# Altium footprint library Rising Clamp System WR-TBL_2.54 mm.PcbLib: 6 footprints
Each footprint in its own frame and in the unit in brackets; x right, y up, seen from the top. Pads: shape width x height; smd on the part's side, far side on the other; paste and mask are expansions set on the pad; w line width, h text height; cw(c..) or ccw(c..) is an arc to the next point about the centre after c.
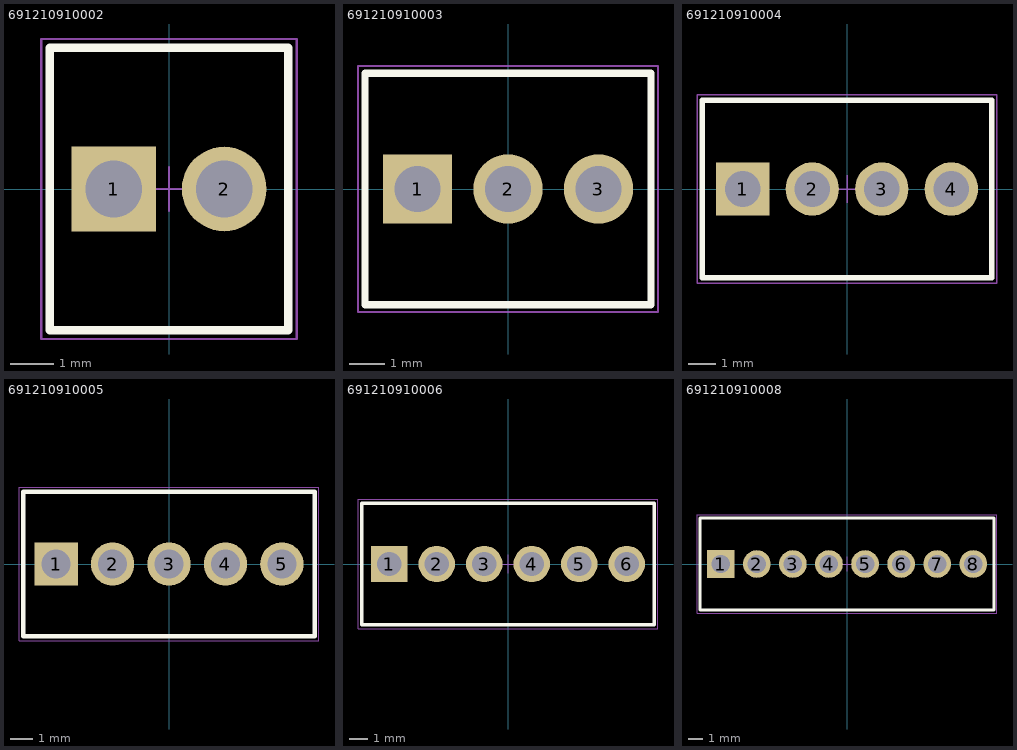
[diagram p0: the footprints below, top view; thin cyan lines are the x and y axes]

## 691210910002 [mm] "2,54mm - modular - green - Horizontal wire entry - Cage clamp - 0,8mm2 wires - 02p"
height 8.5
pads (2):
  rect 1.95x1.95 hole 1.3: 1(-1.27,0)
  round 1.95 hole 1.3: 2(1.27,0)
Top Overlay:
  lines w0.2: -2.74,-3.25 2.74,-3.25 2.74,3.25 -2.74,3.25 -2.74,-3.25
M13 Assembly Top:
  lines w0.1: -2.74,-3.25 -2.74,3.25 2.74,3.25 2.74,-3.25 -2.74,-3.25
M15 Courtyard Top:
  lines w0.05: -0.5,0 0.5,0 ; 0,-0.5 0,0.5 ; -2.94,-3.45 -2.94,3.45 2.94,3.45 2.94,-3.45 -2.94,-3.45
3D body "691210910002.stp": height 8.55, standoff -3.45, extent -2.74,-3.25 2.74,3.25

## 691210910003 [mm] "2,54mm - modular - green - Horizontal wire entry - Cage clamp - 0,8mm2 wires - 03p"
height 8.5
pads (3):
  rect 1.95x1.95 hole 1.3: 1(-2.54,0)
  round 1.95 hole 1.3: 2(0,0) 3(2.54,0)
Top Overlay:
  lines w0.2: -4.01,-3.25 -4.01,3.25 4.01,3.25 4.01,-3.25 -4.01,-3.25
M13 Assembly Top:
  lines w0.1: -4.01,-3.25 4.01,-3.25 4.01,3.25 -4.01,3.25 -4.01,-3.25
M15 Courtyard Top:
  lines w0.05: -0.5,0 0.5,0 ; 0,-0.5 0,0.5 ; -4.21,-3.45 4.21,-3.45 4.21,3.45 -4.21,3.45 -4.21,-3.45
3D body "691210910003.stp": height 8.55, standoff -3.45, extent -4.01,-3.25 4.01,3.25

## 691210910004 [mm] "2,54mm - modular - green - Horizontal wire entry - Cage clamp - 0,8mm2 wires - 04p"
height 8.5
pads (4):
  rect 1.95x1.95 hole 1.3: 1(-3.81,0)
  round 1.95 hole 1.3: 2(-1.27,0) 3(1.27,0) 4(3.81,0)
Top Overlay:
  lines w0.2: -5.28,-3.25 -5.28,3.25 5.28,3.25 5.28,-3.25 -5.28,-3.25
M13 Assembly Top:
  lines w0.1: -5.28,-3.25 5.28,-3.25 5.28,3.25 -5.28,3.25 -5.28,-3.25
M15 Courtyard Top:
  lines w0.05: -0.5,0 0.5,0 ; 0,-0.5 0,0.5 ; -5.48,-3.45 5.48,-3.45 5.48,3.45 -5.48,3.45 -5.48,-3.45
3D body "691210910004.stp": height 8.55, standoff -3.45, extent -5.28,-3.25 5.28,3.25

## 691210910005 [mm] "2,54mm - modular - green - Horizontal wire entry - Cage clamp - 0,8mm2 wires - 05p"
height 8.5
pads (5):
  rect 1.95x1.95 hole 1.3: 1(-5.08,0)
  round 1.95 hole 1.3: 2(-2.54,0) 3(0,0) 4(2.54,0) 5(5.08,0)
Top Overlay:
  lines w0.2: -6.55,-3.25 6.55,-3.25 6.55,3.25 -6.55,3.25 -6.55,-3.25
M13 Assembly Top:
  lines w0.1: -6.55,-3.25 -6.55,3.25 6.55,3.25 6.55,-3.25 -6.55,-3.25
M15 Courtyard Top:
  lines w0.05: -0.5,0 0.5,0 ; 0,-0.5 0,0.5 ; -6.75,-3.45 -6.75,3.45 6.75,3.45 6.75,-3.45 -6.75,-3.45
3D body "691210910005.stp": height 8.55, standoff -3.45, extent -6.55,-3.25 6.55,3.25

## 691210910006 [mm] "2,54mm - modular - green - Horizontal wire entry - Cage clamp - 0,8mm2 wires - 06p"
height 8.5
pads (6):
  rect 1.95x1.95 hole 1.3: 1(-6.35,0)
  round 1.95 hole 1.3: 2(-3.81,0) 3(-1.27,0) 4(1.27,0) 5(3.81,0) 6(6.35,0)
Top Overlay:
  lines w0.2: -7.82,-3.25 7.82,-3.25 7.82,3.25 -7.82,3.25 -7.82,-3.25
M13 Assembly Top:
  lines w0.1: -7.82,-3.25 -7.82,3.25 7.82,3.25 7.82,-3.25 -7.82,-3.25
M15 Courtyard Top:
  lines w0.05: -0.5,0 0.5,0 ; 0,-0.5 0,0.5 ; -8.02,-3.45 -8.02,3.45 8.02,3.45 8.02,-3.45 -8.02,-3.45
3D body "691210910006.stp": height 8.55, standoff -3.45, extent -7.82,-3.25 7.82,3.25

## 691210910008 [mm] "2,54mm - modular - green - Horizontal wire entry - Cage clamp - 0,8mm2 wires - 08p"
height 8.5
pads (8):
  rect 1.95x1.95 hole 1.3: 1(-8.89,0)
  round 1.95 hole 1.3: 2(-6.35,0) 3(-3.81,0) 4(-1.27,0) 5(1.27,0) 6(3.81,0) 7(6.35,0) 8(8.89,0)
Top Overlay:
  lines w0.2: -10.36,-3.25 -10.36,3.25 10.36,3.25 10.36,-3.25 -10.36,-3.25
M13 Assembly Top:
  lines w0.1: -10.36,-3.25 10.36,-3.25 10.36,3.25 -10.36,3.25 -10.36,-3.25
M15 Courtyard Top:
  lines w0.05: -0.5,0 0.5,0 ; 0,-0.5 0,0.5 ; -10.56,-3.45 10.56,-3.45 10.56,3.45 -10.56,3.45 -10.56,-3.45
3D body "691210910008.stp": height 8.55, standoff -3.45, extent -10.36,-3.25 10.36,3.25